# Altium schematic symbol library Linear Voltage Regulators.SchLib: 2 symbols
Pins are listed as number, name and electrical type; pins without a type are passive.

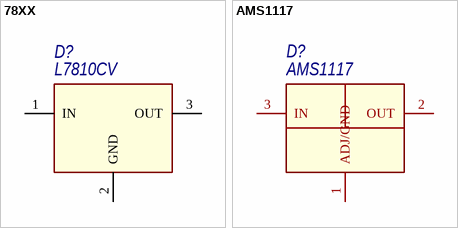
[diagram p0: symbols 78XX to AMS1117]

## 78XX
designator D?, comment L7810CV
footprint TO220
pins: 1 IN, 2 GND, 3 OUT

## AMS1117
designator D?
footprint SOT223 AMS1117 (SOT223, 4-Leads, Body 6,50x7,00mm (avg), Pitch 2,30mm, IPC Medium Density)
pins: 1 ADJ/GND, 2 OUT, 3 IN